# Altium footprint library Capacitor100u.PcbLib: 2 footprints
Each footprint in its own frame and in the unit in brackets; x right, y up, seen from the top. Pads: shape width x height; smd on the part's side, far side on the other; paste and mask are expansions set on the pad; w line width, h text height; cw(c..) or ccw(c..) is an arc to the next point about the centre after c.
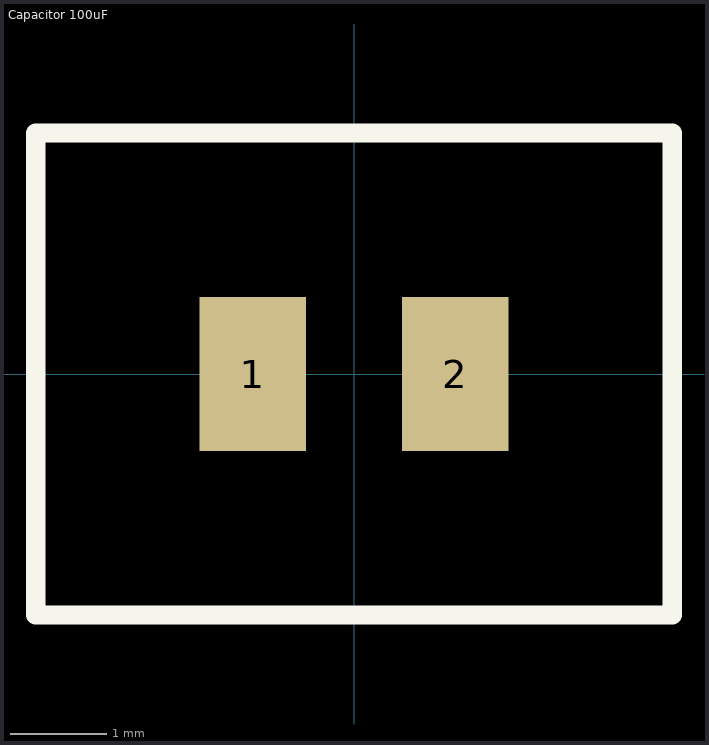
[diagram p0: the footprints below, top view; thin cyan lines are the x and y axes]

## Capacitor 100uF [mm]
pads (2):
  rect 1.1x1.6 smd: 1(-1.05,0) 2(1.05,0)
Top Overlay:
  lines w0.2: -3.3,-2.5 3.3,-2.5 3.3,2.5 -3.3,2.5 -3.3,0 -3.3,-2.5

## PCBComponent_1 [mm]